# EAGLE library part SBH11-*-D05-? (library RoboJackets-Connectors)
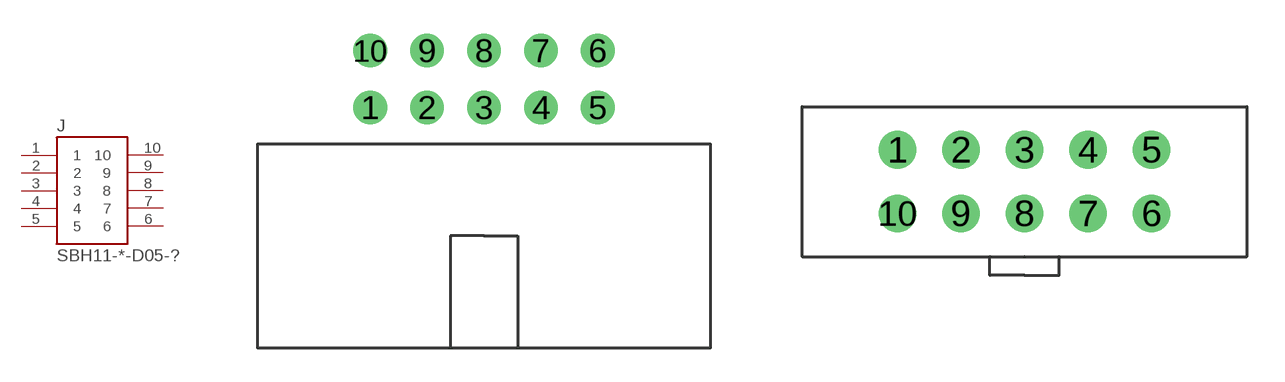
[diagram p14: symbol with the pads of SBH11-*-D05-RA; footprints SBH11-*-D05-RA, SFH11-*-D05-ST]

Designator prefix J

## SBH11-PBPC-D05-RA (DIGIKEY: S9177-ND; MPN: SBH11-PBPC-D05-RA-BK)  [SBH11-*-D05-RA]
1  1
2  2
3  3
4  4
5  5
6  6
7  7
8  8
9  9
10  10

## SBH11-PBPC-D05-ST (DIGIKEY: S9194-ND; MPN: SFH11-PBPC-D05-ST-BK)  [SFH11-*-D05-ST]
Pads as for SBH11-*-D05-RA

## Footprint SBH11-*-D05-RA (pad centres in mm)
drill 1: 1 -5.08,-1.27; 2 -2.54,-1.27; 3 0,-1.27; 4 2.54,-1.27; 5 5.08,-1.27; 6 5.08,1.27; 7 2.54,1.27; 8 0,1.27; 9 -2.54,1.27; 10 -5.08,1.27

## Footprint SFH11-*-D05-ST (pad centres in mm)
drill 1: 1 -5.08,1.27; 2 -2.54,1.27; 3 0,1.27; 4 2.54,1.27; 5 5.08,1.27; 6 5.08,-1.27; 7 2.54,-1.27; 8 0,-1.27; 9 -2.54,-1.27; 10 -5.08,-1.27